# Altium schematic symbol library RES,50m,1%,0.5W,1206.Schlib: 1 symbol
Pins are listed as number, name and electrical type; pins without a type are passive.

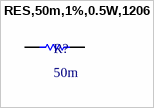
[diagram p0: symbol RES,50m,1%,0.5W,1206]

## RES,50m,1%,0.5W,1206
designator R?, comment 50m
50 mOhms ±1% 0.5W, 1/2W Chip Resistor 1206 (3216 Metric) Current Sense Metal Film
pins: 1, 2